# EAGLE library part ATTINY1624 (library bt_avr)
ATtiny1624 The ATtiny1624 microcontrollers of the tinyAVR ® 2 family use the AVR ® CPU with hardware multiplier, running at up to 20 MHz, with 16 KB Flash, 2 KB of SRAM, and 256B of EEPROM available in a 14-pin package. The family uses the latest technologies from Microchip with a flexible and low-power architecture, including Event System, advanced digital peripherals, and accurate analog features such as a 12-bit differential ADC with Programmable Gain Amplifier (PGA). datasheet.pdf <https://ww1.microchip.com/downloads/en/DeviceDoc/ATtiny1624-26-27-DataSheet-DS40002234A.pdf>
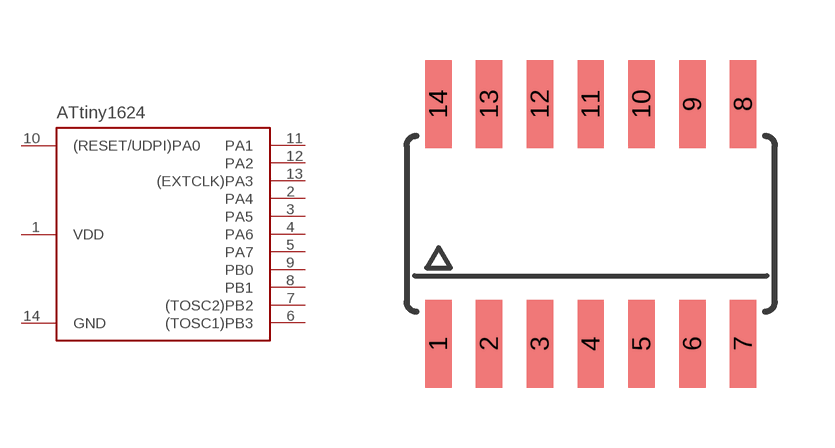
[diagram p10: symbol with the pads of SOIC14N; footprint SOIC14N]

Designator prefix U

## ATTINY1624-SSU  [SOIC14N]
1  VDD  pwr
2  PA4
3  PA5
4  PA6
5  PA7
6  (TOSC1)PB3
7  (TOSC2)PB2
8  PB1
9  PB0
10  (RESET/UDPI)PA0
11  PA1
12  PA2
13  (EXTCLK)PA3
14  GND  pwr

## Footprint SOIC14N (pad centres in mm)
smd 0.66 x 2.2: 1 -3.81,-3; 2 -2.54,-3; 3 -1.27,-3; 4 0,-3; 5 1.27,-3; 6 2.54,-3; 7 3.81,-3; 8 3.81,3; 9 2.54,3; 10 1.27,3; 11 0,3; 12 -1.27,3; 13 -2.54,3; 14 -3.81,3